# Altium footprint library PCB - LEADLESS - QFN - MICROCHIP SMSC SQFN-32 5x5MM.PcbLib: 1 footprints
Each footprint in its own frame and in the unit in brackets; x right, y up, seen from the top. Pads: shape width x height; smd on the part's side, far side on the other; paste and mask are expansions set on the pad; w line width, h text height; cw(c..) or ccw(c..) is an arc to the next point about the centre after c.
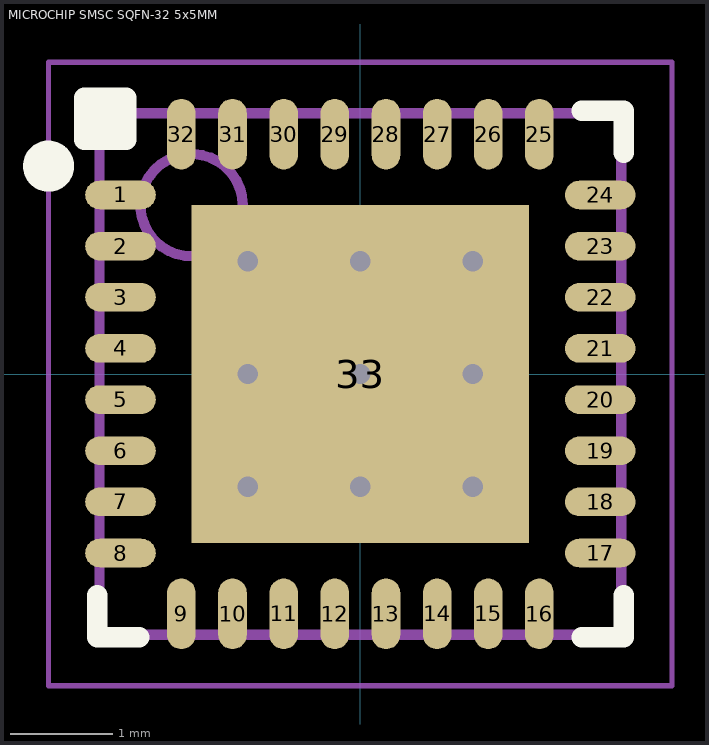
[diagram p0: the footprint, top view; thin cyan lines are the x and y axes]

## MICROCHIP SMSC SQFN-32 5x5MM [mm] "QFN, 32-Leads, Body 5.00x5.00mm, Pitch 0.50mm, Thermal Pad 3.30x3.30mm, IPC Medium Density"
height 1
pads (33):
  oval 0.69x0.28 smd: 1(-2.345,1.75) 2(-2.345,1.25) 3(-2.345,0.75) 4(-2.345,0.25) 5(-2.345,-0.25) 6(-2.345,-0.75) 7(-2.345,-1.25) 8(-2.345,-1.75) 17(2.345,-1.75) 18(2.345,-1.25) 19(2.345,-0.75) 20(2.345,-0.25) 21(2.345,0.25) 22(2.345,0.75) 23(2.345,1.25) 24(2.345,1.75)
  oval 0.28x0.69 smd: 9(-1.75,-2.345) 10(-1.25,-2.345) 11(-0.75,-2.345) 12(-0.25,-2.345) 13(0.25,-2.345) 14(0.75,-2.345) 15(1.25,-2.345) 16(1.75,-2.345) 25(1.75,2.345) 26(1.25,2.345) 27(0.75,2.345) 28(0.25,2.345) 29(-0.25,2.345) 30(-0.75,2.345) 31(-1.25,2.345) 32(-1.75,2.345)
  rect 3.3x3.3 smd: 33(0,0)
via -1.1,1.1 diameter 0.5 hole 0.2
via 0,1.1 diameter 0.5 hole 0.2
via 1.1,1.1 diameter 0.5 hole 0.2
via -1.1,0 diameter 0.5 hole 0.2
via 0,0 diameter 0.5 hole 0.2
via 1.1,0 diameter 0.5 hole 0.2
via -1.1,-1.1 diameter 0.5 hole 0.2
via 0,-1.1 diameter 0.5 hole 0.2
via 1.1,-1.1 diameter 0.5 hole 0.2
Top Overlay:
  circle w0.25: c-3.048,2.032 r0.125
  rectangle: -2.7,2.29 -2.29,2.7
  lines w0.2: -2.573,-2.163 -2.573,-2.573 -2.163,-2.573 ; 2.163,-2.573 2.573,-2.573 2.573,-2.163 ; 2.163,2.573 2.573,2.573 2.573,2.163 ; -2.7,2.29 -2.29,2.29 -2.29,2.7 -2.7,2.7 -2.7,2.29
Mechanical 13:
  circle w0.1: c-1.65,1.65 r0.5
  lines w0.1: -2.55,-2.55 -2.55,2.55 2.55,2.55 2.55,-2.55 -2.55,-2.55
Mechanical 15:
  lines w0.05: -3.048,-3.048 -3.048,3.048 3.048,3.048 3.048,-3.048 -3.048,-3.048
  lines w0.1: -0.5,0 0.5,0 ; 0,-0.5 0,0.5
3D body "MICROCHIP SMSC SQFN-32 5x5MM.step": height 1, standoff 0, extent -2.551,-2.551 2.551,2.551